# Altium footprint library SM_SOT23_123.PcbLib: 1 footprints
Each footprint in its own frame and in the unit in brackets; x right, y up, seen from the top. Pads: shape width x height; smd on the part's side, far side on the other; paste and mask are expansions set on the pad; w line width, h text height; cw(c..) or ccw(c..) is an arc to the next point about the centre after c.
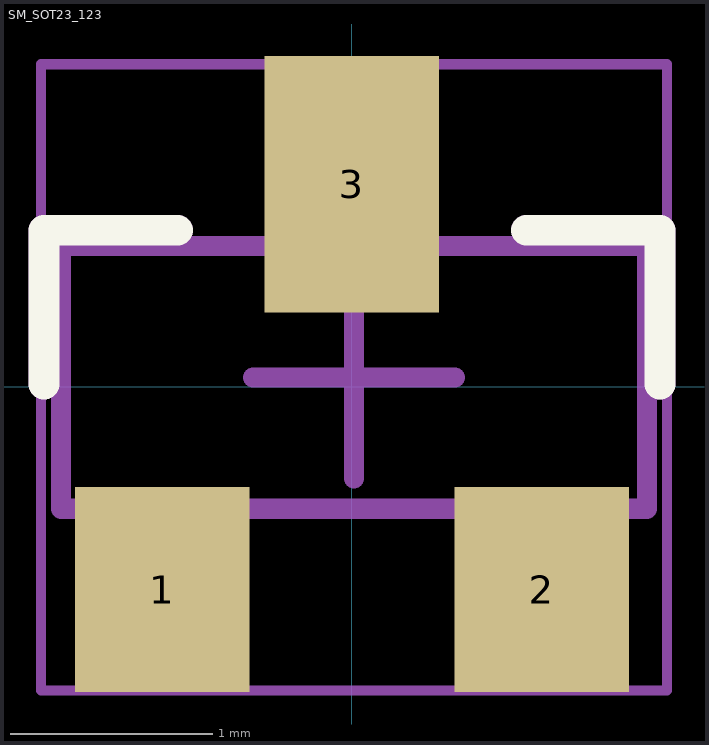
[diagram p0: the footprint, top view; thin cyan lines are the x and y axes]

## SM_SOT23_123 [mil]
pads (3):
  rect 34x40 smd: 1(-37,-39.5) 2(37,-39.5)
  rect 34x50 smd: 3(0,39.5)
Top Overlay:
  lines w6: -60,0.5 -60,30.5 -34,30.5 ; 34,30.5 60,30.5 60,0.5
Mechanical 1:
  lines w6: -60,0.5 -60,30.5 -34,30.5 ; 34,30.5 60,30.5 60,0.5
Mechanical 13:
  lines w3.94: -56.69,-23.75 -56.69,27.43 57.49,27.43 57.49,-23.75 -56.69,-23.75
Mechanical 15:
  lines w1.97: -60.62,-59.19 -60.62,62.86 61.43,62.86 61.43,-59.19 -60.62,-59.19
  lines w3.94: -19.28,1.84 20.09,1.84 ; 0.4,-17.85 0.4,21.52
3D body: height 43.31, standoff 0.51, extent -56.69,-23.75 57.49,27.43